# EAGLE library part PIC16F676-I/ST (library Son_of_Dark_Powersch)
8 bit CMOS Microcontrollers
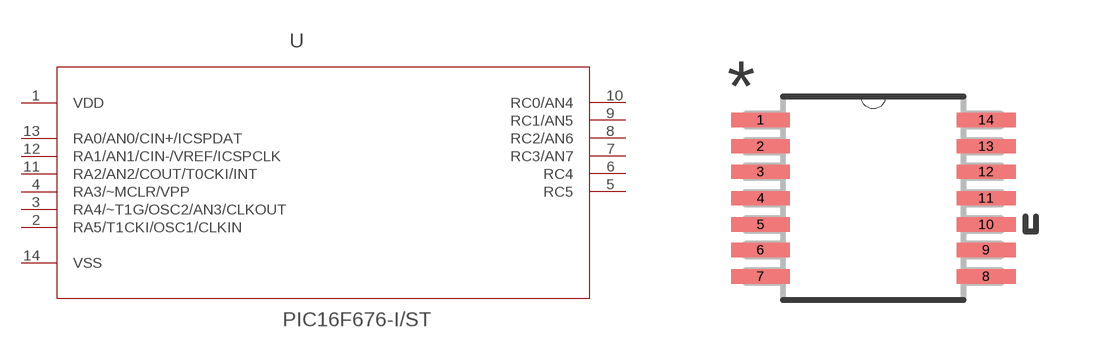
[diagram p1: symbol with the pads of SOP65P640X120-14N; footprint SOP65P640X120-14N]

Designator prefix -

## PIC16F676-I/ST (DESCRIPTION: 8 bit CMOS Microcontrollers; MPN: PIC16F676-I/ST; OC_FARNELL: 9760539; OC_NEWARK: 92C4553; PACKAGE: TSSOP-14; SUPPLIER: Microchip)  [SOP65P640X120-14N]
1  VDD  pwr
2  RA5/T1CKI/OSC1/CLKIN
3  RA4/~T1G/OSC2/AN3/CLKOUT
4  RA3/~MCLR/VPP
5  RC5
6  RC4
7  RC3/AN7
8  RC2/AN6
9  RC1/AN5
10  RC0/AN4
11  RA2/AN2/COUT/T0CKI/INT
12  RA1/AN1/CIN-/VREF/ICSPCLK
13  RA0/AN0/CIN+/ICSPDAT
14  VSS  pwr

## Footprint SOP65P640X120-14N (pad centres in mm)
smd 1.473 x 0.356: 1 -2.819,1.956; 2 -2.819,1.295; 3 -2.819,0.66; 4 -2.819,0; 5 -2.819,-0.66; 6 -2.819,-1.295; 7 -2.819,-1.956; 8 2.819,-1.956; 9 2.819,-1.295; 10 2.819,-0.66; 11 2.819,0; 12 2.819,0.66; 13 2.819,1.295; 14 2.819,1.956